# Altium integrated library Renesas Microprocessor SuperH.IntLib: 433 symbols (part 38 of 62)
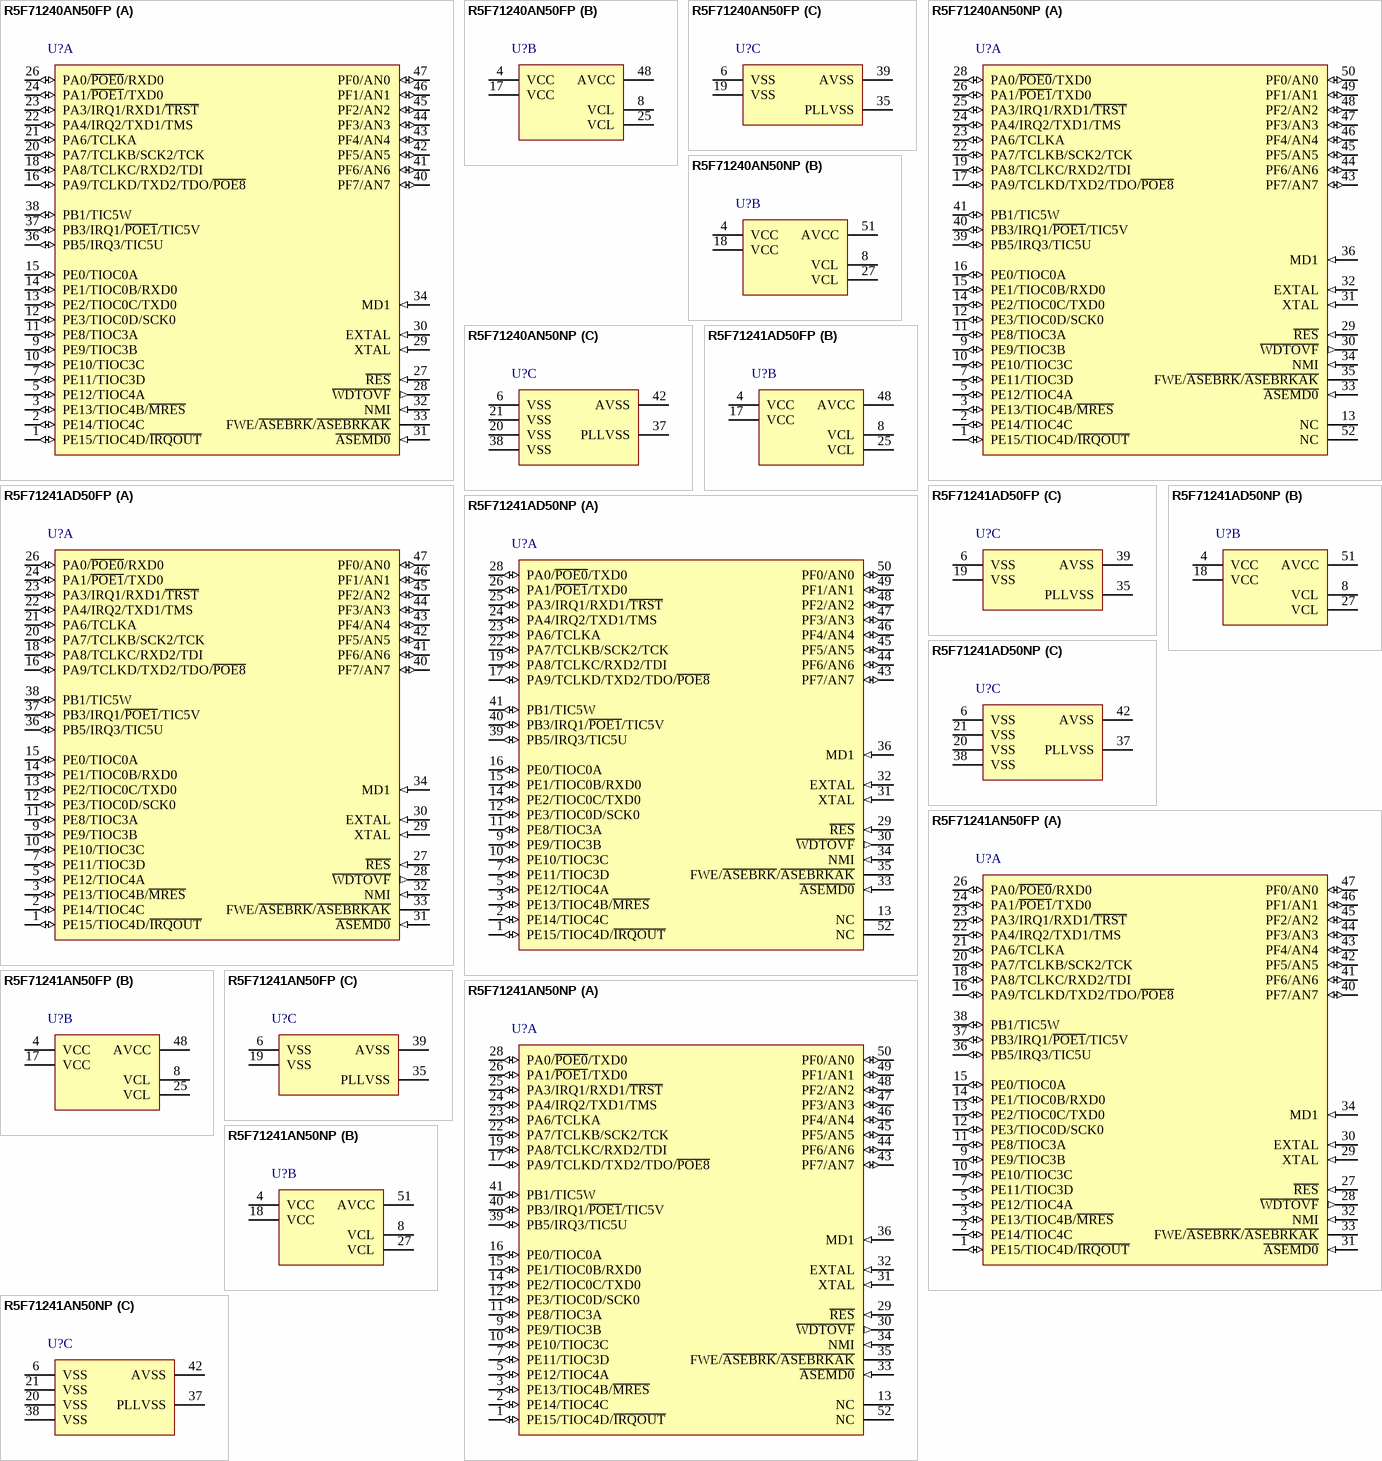
[diagram p404: symbols R5F71240AN50FP to R5F71241AN50NP]

## R5F71240AN50FP
designator U?
32-Bit RISC Microcomputer, SH7125 Series, SH-2 core, 50MHz, 16K ROM, 4K RAM, PLQP0048JA-A (FP-48F) Package, -20 to 85°C; Published: 28-Aug-2009; DatasheetVersion: Rev.5.00, Mar-2009; PackageVersion: Sep-2005; PackageReference: PLQP0048JA-A; Publisher: Altium Limited; PackageDescription: 48-Pin Plastic Low Profile QFP, 10 x 10 x 1.45 mm Body, 0.65 mm Pitch; Code_JEITA: P-LQFP48-10x10-0.65; ComponentLink1Description: Manufacturer Link; ComponentLink1URL: http://www.renesas.com/fmwk.jsp?cnt=sh7125_root.jsp&fp=/products/mpumcu/superh_family/shtiny_series/sh7125_group/; ComponentLink2Description: Datasheet; ComponentLink2URL: http://documentation.renesas.com/eng/products/mpumcu/rej09b0243_sh7125_7124hm.pdf; ComponentLink3Description: Packaging Specification; ComponentLink3URL: http://sg.renesas.com/media/products/common_info/package/pdf/ic/code/plqp0048ja_a.pdf
footprint PLQP0048JA-A_N (QFP, 48-Leads, Body 10x10mm, Pitch 0.65mm, IPC Medium Density)
footprint PLQP0048JA-A_L (QFP, 48-Leads, Body 10x10mm, Pitch 0.65mm, IPC High Density)
footprint PLQP0048JA-A_M (QFP, 48-Leads, Body 10x10mm, Pitch 0.65mm, IPC Low Density)
part A pins: 1 PE15/TIOC4D/~{IRQOUT} (io), 2 PE14/TIOC4C (io), 3 PE13/TIOC4B/~{MRES} (io), 5 PE12/TIOC4A (io), 7 PE11/TIOC3D (io), 9 PE9/TIOC3B (io), 10 PE10/TIOC3C (io), 11 PE8/TIOC3A (io), 12 PE3/TIOC0D/SCK0 (io), 13 PE2/TIOC0C/TXD0 (io), 14 PE1/TIOC0B/RXD0 (io), 15 PE0/TIOC0A (io), 16 PA9/TCLKD/TXD2/TDO/~{POE8} (io), 18 PA8/TCLKC/RXD2/TDI (io), 20 PA7/TCLKB/SCK2/TCK (io), 21 PA6/TCLKA (io), 22 PA4/IRQ2/TXD1/TMS (io), 23 PA3/IRQ1/RXD1/~{TRST} (io), 24 PA1/~{POE1}/TXD0 (io), 26 PA0/~{POE0}/RXD0 (io), 27 ~{RES} (in), 28 ~{WDTOVF} (out), 29 XTAL (in), 30 EXTAL (in), 31 ~{ASEMD0} (in), 32 NMI (in), 33 FWE/~{ASEBRK}/~{ASEBRKAK}, 34 MD1 (in), 36 PB5/IRQ3/TIC5U (io), 37 PB3/IRQ1/~{POE1}/TIC5V (io), 38 PB1/TIC5W (io), 40 PF7/AN7 (io), 41 PF6/AN6 (io), 42 PF5/AN5 (io), 43 PF4/AN4 (io), 44 PF3/AN3 (io), 45 PF2/AN2 (io), 46 PF1/AN1 (io), 47 PF0/AN0 (io)
part B pins: 4 VCC (power), 8 VCL, 17 VCC (power), 25 VCL, 48 AVCC (power)
part C pins: 6 VSS (power), 19 VSS (power), 35 PLLVSS (power), 39 AVSS (power)

## R5F71240AN50NP
designator U?
32-Bit RISC Microcomputer, SH7125 Series, SH-2 core, 50MHz, 16K ROM, 4K RAM, PVQN0052LE-A Package, -20 to 85°C; Published: 28-Aug-2009; DatasheetVersion: Rev.5.00, Mar-2009; PackageVersion: Jun-2008; PackageReference: PVQN0052LE-A; Publisher: Altium Limited; PackageDescription: 52-Pin Plastic Very Thin QFN, 7 x 7 x 0.89 mm Body, 0.4 mm Pitch; Code_JEITA: P-VQFN52-7x7-0.40; ComponentLink1Description: Manufacturer Link; ComponentLink1URL: http://www.renesas.com/fmwk.jsp?cnt=sh7125_root.jsp&fp=/products/mpumcu/superh_family/shtiny_series/sh7125_group/; ComponentLink2Description: Datasheet; ComponentLink2URL: http://documentation.renesas.com/eng/products/mpumcu/rej09b0243_sh7125_7124hm.pdf; ComponentLink3Description: Packaging Specification; ComponentLink3URL: http://sg.renesas.com/media/products/common_info/package/pdf/ic/code/pvqn0052le_a.pdf
footprint PVQN0052LE-A_N (QFN, 52-Leads, Body 7x7 mm, Pitch 0.4mm, IPC Medium Density)
footprint PVQN0052LE-A_L (QFN, 52-Leads, Body 7x7 mm, Pitch 0.4mm, IPC High Density)
footprint PVQN0052LE-A_M (QFN, 52-Leads, Body 7x7 mm, Pitch 0.4mm, IPC Low Density)
part A pins: 1 PE15/TIOC4D/~{IRQOUT} (io), 2 PE14/TIOC4C (io), 3 PE13/TIOC4B/~{MRES} (io), 5 PE12/TIOC4A (io), 7 PE11/TIOC3D (io), 9 PE9/TIOC3B (io), 10 PE10/TIOC3C (io), 11 PE8/TIOC3A (io), 12 PE3/TIOC0D/SCK0 (io), 13 NC, 14 PE2/TIOC0C/TXD0 (io), 15 PE1/TIOC0B/RXD0 (io), 16 PE0/TIOC0A (io), 17 PA9/TCLKD/TXD2/TDO/~{POE8} (io), 19 PA8/TCLKC/RXD2/TDI (io), 22 PA7/TCLKB/SCK2/TCK (io), 23 PA6/TCLKA (io), 24 PA4/IRQ2/TXD1/TMS (io), 25 PA3/IRQ1/RXD1/~{TRST} (io), 26 PA1/~{POE1}/TXD0 (io), 28 PA0/~{POE0}/TXD0 (io), 29 ~{RES} (in), 30 ~{WDTOVF} (out), 31 XTAL (in), 32 EXTAL (in), 33 ~{ASEMD0} (in), 34 NMI (in), 35 FWE/~{ASEBRK}/~{ASEBRKAK}, 36 MD1 (in), 39 PB5/IRQ3/TIC5U (io), 40 PB3/IRQ1/~{POE1}/TIC5V (io), 41 PB1/TIC5W (io), 43 PF7/AN7 (io), 44 PF6/AN6 (io), 45 PF5/AN5 (io), 46 PF4/AN4 (io), 47 PF3/AN3 (io), 48 PF2/AN2 (io), 49 PF1/AN1 (io), 50 PF0/AN0 (io), 52 NC
part B pins: 4 VCC (power), 8 VCL, 18 VCC (power), 27 VCL, 51 AVCC (power)
part C pins: 6 VSS (power), 20 VSS (power), 21 VSS (power), 37 PLLVSS (power), 38 VSS (power), 42 AVSS (power)

## R5F71241AD50FP
designator U?
32-Bit RISC Microcomputer, SH7125 Series, SH-2 core, 50MHz, 32K ROM, 8K RAM, PLQP0048JA-A (FP-48F) Package, -40 to 85°C; Published: 28-Aug-2009; DatasheetVersion: Rev.5.00, Mar-2009; PackageVersion: Sep-2005; PackageReference: PLQP0048JA-A; Publisher: Altium Limited; PackageDescription: 48-Pin Plastic Low Profile QFP, 10 x 10 x 1.45 mm Body, 0.65 mm Pitch; Code_JEITA: P-LQFP48-10x10-0.65; ComponentLink1Description: Manufacturer Link; ComponentLink1URL: http://www.renesas.com/fmwk.jsp?cnt=sh7125_root.jsp&fp=/products/mpumcu/superh_family/shtiny_series/sh7125_group/; ComponentLink2Description: Datasheet; ComponentLink2URL: http://documentation.renesas.com/eng/products/mpumcu/rej09b0243_sh7125_7124hm.pdf; ComponentLink3Description: Packaging Specification; ComponentLink3URL: http://sg.renesas.com/media/products/common_info/package/pdf/ic/code/plqp0048ja_a.pdf
footprint PLQP0048JA-A_N (QFP, 48-Leads, Body 10x10mm, Pitch 0.65mm, IPC Medium Density)
footprint PLQP0048JA-A_L (QFP, 48-Leads, Body 10x10mm, Pitch 0.65mm, IPC High Density)
footprint PLQP0048JA-A_M (QFP, 48-Leads, Body 10x10mm, Pitch 0.65mm, IPC Low Density)
part A pins: 1 PE15/TIOC4D/~{IRQOUT} (io), 2 PE14/TIOC4C (io), 3 PE13/TIOC4B/~{MRES} (io), 5 PE12/TIOC4A (io), 7 PE11/TIOC3D (io), 9 PE9/TIOC3B (io), 10 PE10/TIOC3C (io), 11 PE8/TIOC3A (io), 12 PE3/TIOC0D/SCK0 (io), 13 PE2/TIOC0C/TXD0 (io), 14 PE1/TIOC0B/RXD0 (io), 15 PE0/TIOC0A (io), 16 PA9/TCLKD/TXD2/TDO/~{POE8} (io), 18 PA8/TCLKC/RXD2/TDI (io), 20 PA7/TCLKB/SCK2/TCK (io), 21 PA6/TCLKA (io), 22 PA4/IRQ2/TXD1/TMS (io), 23 PA3/IRQ1/RXD1/~{TRST} (io), 24 PA1/~{POE1}/TXD0 (io), 26 PA0/~{POE0}/RXD0 (io), 27 ~{RES} (in), 28 ~{WDTOVF} (out), 29 XTAL (in), 30 EXTAL (in), 31 ~{ASEMD0} (in), 32 NMI (in), 33 FWE/~{ASEBRK}/~{ASEBRKAK}, 34 MD1 (in), 36 PB5/IRQ3/TIC5U (io), 37 PB3/IRQ1/~{POE1}/TIC5V (io), 38 PB1/TIC5W (io), 40 PF7/AN7 (io), 41 PF6/AN6 (io), 42 PF5/AN5 (io), 43 PF4/AN4 (io), 44 PF3/AN3 (io), 45 PF2/AN2 (io), 46 PF1/AN1 (io), 47 PF0/AN0 (io)
part B pins: 4 VCC (power), 8 VCL, 17 VCC (power), 25 VCL, 48 AVCC (power)
part C pins: 6 VSS (power), 19 VSS (power), 35 PLLVSS (power), 39 AVSS (power)

## R5F71241AD50NP
designator U?
32-Bit RISC Microcomputer, SH7125 Series, SH-2 core, 50MHz, 32K ROM, 8K RAM, PVQN0052LE-A Package, -40 to 85°C; Published: 28-Aug-2009; DatasheetVersion: Rev.5.00, Mar-2009; PackageVersion: Jun-2008; PackageReference: PVQN0052LE-A; Publisher: Altium Limited; PackageDescription: 52-Pin Plastic Very Thin QFN, 7 x 7 x 0.89 mm Body, 0.4 mm Pitch; Code_JEITA: P-VQFN52-7x7-0.40; ComponentLink1Description: Manufacturer Link; ComponentLink1URL: http://www.renesas.com/fmwk.jsp?cnt=sh7125_root.jsp&fp=/products/mpumcu/superh_family/shtiny_series/sh7125_group/; ComponentLink2Description: Datasheet; ComponentLink2URL: http://documentation.renesas.com/eng/products/mpumcu/rej09b0243_sh7125_7124hm.pdf; ComponentLink3Description: Packaging Specification; ComponentLink3URL: http://sg.renesas.com/media/products/common_info/package/pdf/ic/code/pvqn0052le_a.pdf
footprint PVQN0052LE-A_N (QFN, 52-Leads, Body 7x7 mm, Pitch 0.4mm, IPC Medium Density)
footprint PVQN0052LE-A_L (QFN, 52-Leads, Body 7x7 mm, Pitch 0.4mm, IPC High Density)
footprint PVQN0052LE-A_M (QFN, 52-Leads, Body 7x7 mm, Pitch 0.4mm, IPC Low Density)
part A pins: 1 PE15/TIOC4D/~{IRQOUT} (io), 2 PE14/TIOC4C (io), 3 PE13/TIOC4B/~{MRES} (io), 5 PE12/TIOC4A (io), 7 PE11/TIOC3D (io), 9 PE9/TIOC3B (io), 10 PE10/TIOC3C (io), 11 PE8/TIOC3A (io), 12 PE3/TIOC0D/SCK0 (io), 13 NC, 14 PE2/TIOC0C/TXD0 (io), 15 PE1/TIOC0B/RXD0 (io), 16 PE0/TIOC0A (io), 17 PA9/TCLKD/TXD2/TDO/~{POE8} (io), 19 PA8/TCLKC/RXD2/TDI (io), 22 PA7/TCLKB/SCK2/TCK (io), 23 PA6/TCLKA (io), 24 PA4/IRQ2/TXD1/TMS (io), 25 PA3/IRQ1/RXD1/~{TRST} (io), 26 PA1/~{POE1}/TXD0 (io), 28 PA0/~{POE0}/TXD0 (io), 29 ~{RES} (in), 30 ~{WDTOVF} (out), 31 XTAL (in), 32 EXTAL (in), 33 ~{ASEMD0} (in), 34 NMI (in), 35 FWE/~{ASEBRK}/~{ASEBRKAK}, 36 MD1 (in), 39 PB5/IRQ3/TIC5U (io), 40 PB3/IRQ1/~{POE1}/TIC5V (io), 41 PB1/TIC5W (io), 43 PF7/AN7 (io), 44 PF6/AN6 (io), 45 PF5/AN5 (io), 46 PF4/AN4 (io), 47 PF3/AN3 (io), 48 PF2/AN2 (io), 49 PF1/AN1 (io), 50 PF0/AN0 (io), 52 NC
part B pins: 4 VCC (power), 8 VCL, 18 VCC (power), 27 VCL, 51 AVCC (power)
part C pins: 6 VSS (power), 20 VSS (power), 21 VSS (power), 37 PLLVSS (power), 38 VSS (power), 42 AVSS (power)

## R5F71241AN50FP
designator U?
32-Bit RISC Microcomputer, SH7125 Series, SH-2 core, 50MHz, 32K ROM, 8K RAM, PLQP0048JA-A (FP-48F) Package, -20 to 85°C; Published: 28-Aug-2009; DatasheetVersion: Rev.5.00, Mar-2009; PackageVersion: Sep-2005; PackageReference: PLQP0048JA-A; Publisher: Altium Limited; PackageDescription: 48-Pin Plastic Low Profile QFP, 10 x 10 x 1.45 mm Body, 0.65 mm Pitch; Code_JEITA: P-LQFP48-10x10-0.65; ComponentLink1Description: Manufacturer Link; ComponentLink1URL: http://www.renesas.com/fmwk.jsp?cnt=sh7125_root.jsp&fp=/products/mpumcu/superh_family/shtiny_series/sh7125_group/; ComponentLink2Description: Datasheet; ComponentLink2URL: http://documentation.renesas.com/eng/products/mpumcu/rej09b0243_sh7125_7124hm.pdf; ComponentLink3Description: Packaging Specification; ComponentLink3URL: http://sg.renesas.com/media/products/common_info/package/pdf/ic/code/plqp0048ja_a.pdf
footprint PLQP0048JA-A_N (QFP, 48-Leads, Body 10x10mm, Pitch 0.65mm, IPC Medium Density)
footprint PLQP0048JA-A_L (QFP, 48-Leads, Body 10x10mm, Pitch 0.65mm, IPC High Density)
footprint PLQP0048JA-A_M (QFP, 48-Leads, Body 10x10mm, Pitch 0.65mm, IPC Low Density)
part A pins: 1 PE15/TIOC4D/~{IRQOUT} (io), 2 PE14/TIOC4C (io), 3 PE13/TIOC4B/~{MRES} (io), 5 PE12/TIOC4A (io), 7 PE11/TIOC3D (io), 9 PE9/TIOC3B (io), 10 PE10/TIOC3C (io), 11 PE8/TIOC3A (io), 12 PE3/TIOC0D/SCK0 (io), 13 PE2/TIOC0C/TXD0 (io), 14 PE1/TIOC0B/RXD0 (io), 15 PE0/TIOC0A (io), 16 PA9/TCLKD/TXD2/TDO/~{POE8} (io), 18 PA8/TCLKC/RXD2/TDI (io), 20 PA7/TCLKB/SCK2/TCK (io), 21 PA6/TCLKA (io), 22 PA4/IRQ2/TXD1/TMS (io), 23 PA3/IRQ1/RXD1/~{TRST} (io), 24 PA1/~{POE1}/TXD0 (io), 26 PA0/~{POE0}/RXD0 (io), 27 ~{RES} (in), 28 ~{WDTOVF} (out), 29 XTAL (in), 30 EXTAL (in), 31 ~{ASEMD0} (in), 32 NMI (in), 33 FWE/~{ASEBRK}/~{ASEBRKAK}, 34 MD1 (in), 36 PB5/IRQ3/TIC5U (io), 37 PB3/IRQ1/~{POE1}/TIC5V (io), 38 PB1/TIC5W (io), 40 PF7/AN7 (io), 41 PF6/AN6 (io), 42 PF5/AN5 (io), 43 PF4/AN4 (io), 44 PF3/AN3 (io), 45 PF2/AN2 (io), 46 PF1/AN1 (io), 47 PF0/AN0 (io)
part B pins: 4 VCC (power), 8 VCL, 17 VCC (power), 25 VCL, 48 AVCC (power)
part C pins: 6 VSS (power), 19 VSS (power), 35 PLLVSS (power), 39 AVSS (power)

## R5F71241AN50NP
designator U?
32-Bit RISC Microcomputer, SH7125 Series, SH-2 core, 50MHz, 32K ROM, 8K RAM, PVQN0052LE-A Package, -20 to 85°C; Published: 28-Aug-2009; DatasheetVersion: Rev.5.00, Mar-2009; PackageVersion: Jun-2008; PackageReference: PVQN0052LE-A; Publisher: Altium Limited; PackageDescription: 52-Pin Plastic Very Thin QFN, 7 x 7 x 0.89 mm Body, 0.4 mm Pitch; Code_JEITA: P-VQFN52-7x7-0.40; ComponentLink1Description: Manufacturer Link; ComponentLink1URL: http://www.renesas.com/fmwk.jsp?cnt=sh7125_root.jsp&fp=/products/mpumcu/superh_family/shtiny_series/sh7125_group/; ComponentLink2Description: Datasheet; ComponentLink2URL: http://documentation.renesas.com/eng/products/mpumcu/rej09b0243_sh7125_7124hm.pdf; ComponentLink3Description: Packaging Specification; ComponentLink3URL: http://sg.renesas.com/media/products/common_info/package/pdf/ic/code/pvqn0052le_a.pdf
footprint PVQN0052LE-A_N (QFN, 52-Leads, Body 7x7 mm, Pitch 0.4mm, IPC Medium Density)
footprint PVQN0052LE-A_L (QFN, 52-Leads, Body 7x7 mm, Pitch 0.4mm, IPC High Density)
footprint PVQN0052LE-A_M (QFN, 52-Leads, Body 7x7 mm, Pitch 0.4mm, IPC Low Density)
part A pins: 1 PE15/TIOC4D/~{IRQOUT} (io), 2 PE14/TIOC4C (io), 3 PE13/TIOC4B/~{MRES} (io), 5 PE12/TIOC4A (io), 7 PE11/TIOC3D (io), 9 PE9/TIOC3B (io), 10 PE10/TIOC3C (io), 11 PE8/TIOC3A (io), 12 PE3/TIOC0D/SCK0 (io), 13 NC, 14 PE2/TIOC0C/TXD0 (io), 15 PE1/TIOC0B/RXD0 (io), 16 PE0/TIOC0A (io), 17 PA9/TCLKD/TXD2/TDO/~{POE8} (io), 19 PA8/TCLKC/RXD2/TDI (io), 22 PA7/TCLKB/SCK2/TCK (io), 23 PA6/TCLKA (io), 24 PA4/IRQ2/TXD1/TMS (io), 25 PA3/IRQ1/RXD1/~{TRST} (io), 26 PA1/~{POE1}/TXD0 (io), 28 PA0/~{POE0}/TXD0 (io), 29 ~{RES} (in), 30 ~{WDTOVF} (out), 31 XTAL (in), 32 EXTAL (in), 33 ~{ASEMD0} (in), 34 NMI (in), 35 FWE/~{ASEBRK}/~{ASEBRKAK}, 36 MD1 (in), 39 PB5/IRQ3/TIC5U (io), 40 PB3/IRQ1/~{POE1}/TIC5V (io), 41 PB1/TIC5W (io), 43 PF7/AN7 (io), 44 PF6/AN6 (io), 45 PF5/AN5 (io), 46 PF4/AN4 (io), 47 PF3/AN3 (io), 48 PF2/AN2 (io), 49 PF1/AN1 (io), 50 PF0/AN0 (io), 52 NC
part B pins: 4 VCC (power), 8 VCL, 18 VCC (power), 27 VCL, 51 AVCC (power)
part C pins: 6 VSS (power), 20 VSS (power), 21 VSS (power), 37 PLLVSS (power), 38 VSS (power), 42 AVSS (power)

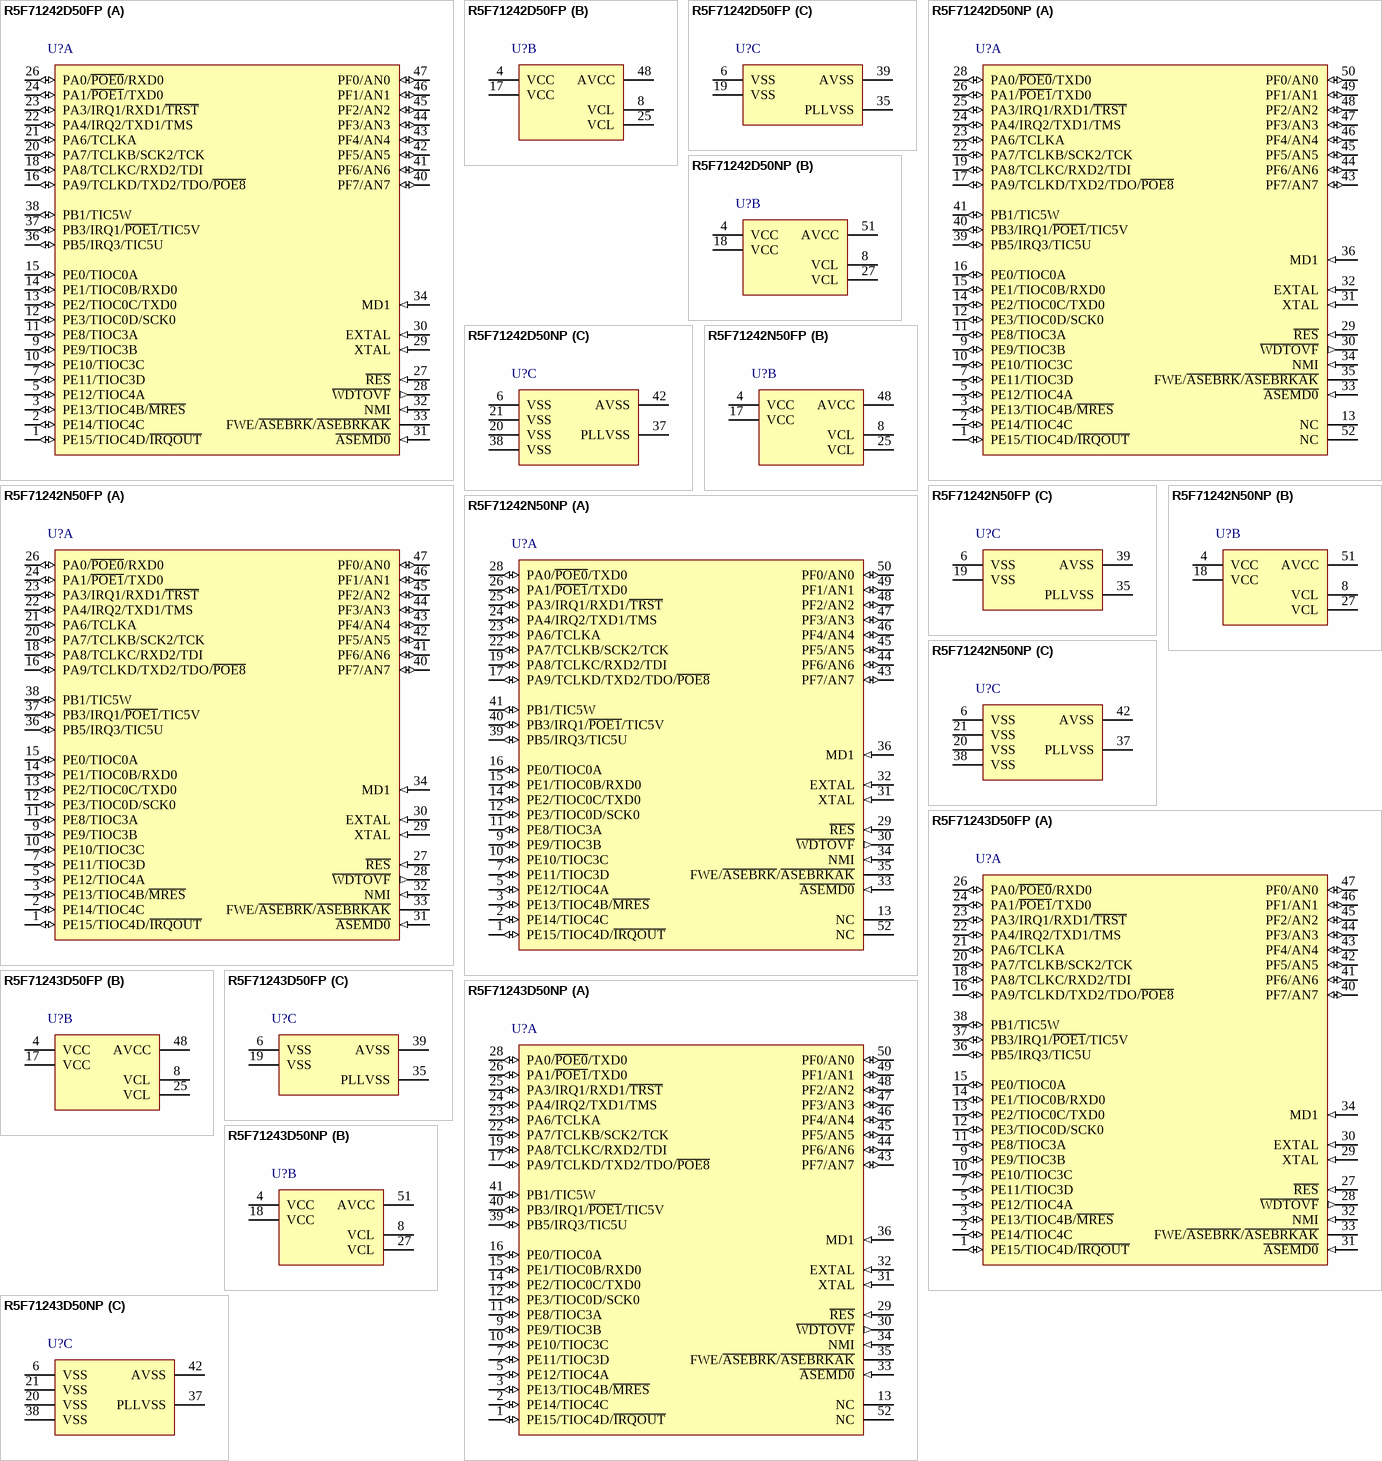
[diagram p141: symbols R5F71242D50FP to R5F71243D50NP]

## R5F71242D50FP
designator U?
32-Bit RISC Microcomputer, SH7125 Series, SH-2 core, 50MHz, 64K ROM, 8K RAM, PLQP0048JA-A (FP-48F) Package, -40 to 85°C; Published: 28-Aug-2009; DatasheetVersion: Rev.5.00, Mar-2009; PackageVersion: Sep-2005; PackageReference: PLQP0048JA-A; Publisher: Altium Limited; PackageDescription: 48-Pin Plastic Low Profile QFP, 10 x 10 x 1.45 mm Body, 0.65 mm Pitch; Code_JEITA: P-LQFP48-10x10-0.65; ComponentLink1Description: Manufacturer Link; ComponentLink1URL: http://www.renesas.com/fmwk.jsp?cnt=sh7125_root.jsp&fp=/products/mpumcu/superh_family/shtiny_series/sh7125_group/; ComponentLink2Description: Datasheet; ComponentLink2URL: http://documentation.renesas.com/eng/products/mpumcu/rej09b0243_sh7125_7124hm.pdf; ComponentLink3Description: Packaging Specification; ComponentLink3URL: http://sg.renesas.com/media/products/common_info/package/pdf/ic/code/plqp0048ja_a.pdf
footprint PLQP0048JA-A_N (QFP, 48-Leads, Body 10x10mm, Pitch 0.65mm, IPC Medium Density)
footprint PLQP0048JA-A_L (QFP, 48-Leads, Body 10x10mm, Pitch 0.65mm, IPC High Density)
footprint PLQP0048JA-A_M (QFP, 48-Leads, Body 10x10mm, Pitch 0.65mm, IPC Low Density)
part A pins: 1 PE15/TIOC4D/~{IRQOUT} (io), 2 PE14/TIOC4C (io), 3 PE13/TIOC4B/~{MRES} (io), 5 PE12/TIOC4A (io), 7 PE11/TIOC3D (io), 9 PE9/TIOC3B (io), 10 PE10/TIOC3C (io), 11 PE8/TIOC3A (io), 12 PE3/TIOC0D/SCK0 (io), 13 PE2/TIOC0C/TXD0 (io), 14 PE1/TIOC0B/RXD0 (io), 15 PE0/TIOC0A (io), 16 PA9/TCLKD/TXD2/TDO/~{POE8} (io), 18 PA8/TCLKC/RXD2/TDI (io), 20 PA7/TCLKB/SCK2/TCK (io), 21 PA6/TCLKA (io), 22 PA4/IRQ2/TXD1/TMS (io), 23 PA3/IRQ1/RXD1/~{TRST} (io), 24 PA1/~{POE1}/TXD0 (io), 26 PA0/~{POE0}/RXD0 (io), 27 ~{RES} (in), 28 ~{WDTOVF} (out), 29 XTAL (in), 30 EXTAL (in), 31 ~{ASEMD0} (in), 32 NMI (in), 33 FWE/~{ASEBRK}/~{ASEBRKAK}, 34 MD1 (in), 36 PB5/IRQ3/TIC5U (io), 37 PB3/IRQ1/~{POE1}/TIC5V (io), 38 PB1/TIC5W (io), 40 PF7/AN7 (io), 41 PF6/AN6 (io), 42 PF5/AN5 (io), 43 PF4/AN4 (io), 44 PF3/AN3 (io), 45 PF2/AN2 (io), 46 PF1/AN1 (io), 47 PF0/AN0 (io)
part B pins: 4 VCC (power), 8 VCL, 17 VCC (power), 25 VCL, 48 AVCC (power)
part C pins: 6 VSS (power), 19 VSS (power), 35 PLLVSS (power), 39 AVSS (power)